# Altium schematic symbol library con-sullinselectronics.SCHLIB: 22 symbols
Pins are listed as number, name and electrical type; pins without a type are passive.

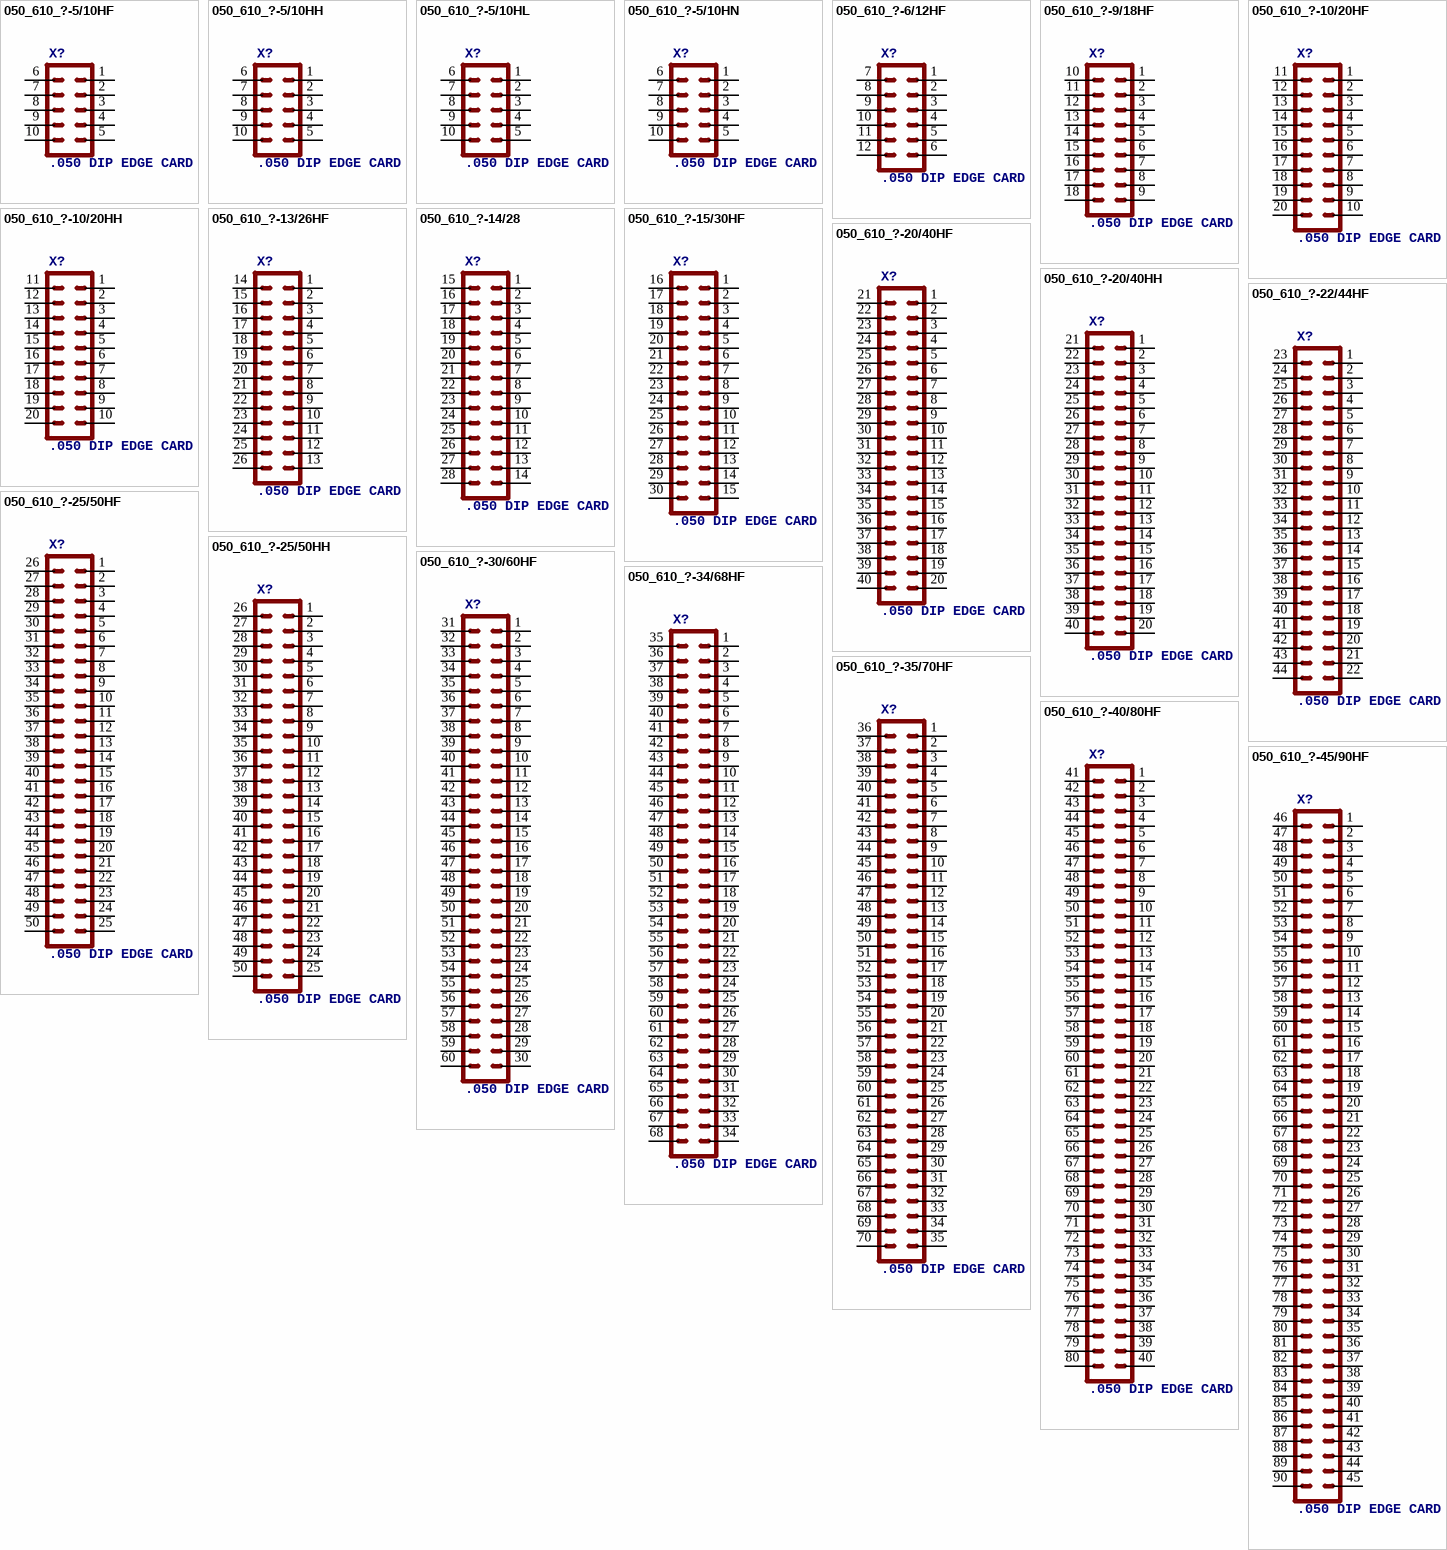
[diagram p0: symbols 050_610_?-5/10HF to 050_610_?-45/90HF]

## 050_610_?-5/10HF
designator X?, comment .050 DIP EDGE CARD CONNECTOR   .050 [1.27mm] CONTACT CENTERS .610" INSULATEOR HEIGHT Source: .050 DIP EDGE CARD.pdf
OC_FARNELL: unknown; OC_NEWARK: unknown
footprint 050_610_HF-5/10
pins: 1, 2, 3, 4, 5, 6, 7, 8, 9, 10

## 050_610_?-5/10HH
designator X?, comment .050 DIP EDGE CARD CONNECTOR   .050 [1.27mm] CONTACT CENTERS .610" INSULATEOR HEIGHT Source: .050 DIP EDGE CARD.pdf
OC_FARNELL: unknown; OC_NEWARK: unknown
footprint 050_610_HH-5/10
pins: 1, 2, 3, 4, 5, 6, 7, 8, 9, 10

## 050_610_?-5/10HL
designator X?, comment .050 DIP EDGE CARD CONNECTOR   .050 [1.27mm] CONTACT CENTERS .610" INSULATEOR HEIGHT Source: .050 DIP EDGE CARD.pdf
OC_FARNELL: unknown; OC_NEWARK: unknown
footprint 050_610_HL-5/10
pins: 1, 2, 3, 4, 5, 6, 7, 8, 9, 10

## 050_610_?-5/10HN
designator X?, comment .050 DIP EDGE CARD CONNECTOR   .050 [1.27mm] CONTACT CENTERS .610" INSULATEOR HEIGHT Source: .050 DIP EDGE CARD.pdf
OC_FARNELL: unknown; OC_NEWARK: unknown
footprint 050_610_HN-5/10
pins: 1, 2, 3, 4, 5, 6, 7, 8, 9, 10

## 050_610_?-6/12HF
designator X?, comment .050 DIP EDGE CARD CONNECTOR   .050 [1.27mm] CONTACT CENTERS .610" INSULATEOR HEIGHT Source: .050 DIP EDGE CARD.pdf
OC_FARNELL: unknown; OC_NEWARK: unknown
footprint 050_610_HF-6/12
pins: 1, 2, 3, 4, 5, 6, 7, 8, 9, 10, 11, 12

## 050_610_?-9/18HF
designator X?, comment .050 DIP EDGE CARD CONNECTOR   .050 [1.27mm] CONTACT CENTERS .610" INSULATEOR HEIGHT Source: .050 DIP EDGE CARD.pdf
OC_FARNELL: unknown; OC_NEWARK: unknown
footprint 050_610_HF-9/18
pins: 1, 2, 3, 4, 5, 6, 7, 8, 9, 10, 11, 12, 13, 14, 15, 16, 17, 18

## 050_610_?-10/20HF
designator X?, comment .050 DIP EDGE CARD CONNECTOR   .050 [1.27mm] CONTACT CENTERS .610" INSULATEOR HEIGHT Source: .050 DIP EDGE CARD.pdf
OC_FARNELL: unknown; OC_NEWARK: unknown
footprint 050_610_HF-10/20
pins: 1, 2, 3, 4, 5, 6, 7, 8, 9, 10, 11, 12, 13, 14, 15, 16, 17, 18, 19, 20

## 050_610_?-10/20HH
designator X?, comment .050 DIP EDGE CARD CONNECTOR   .050 [1.27mm] CONTACT CENTERS .610" INSULATEOR HEIGHT Source: .050 DIP EDGE CARD.pdf
OC_FARNELL: unknown; OC_NEWARK: unknown
footprint 050_610_HH-10/20
pins: 1, 2, 3, 4, 5, 6, 7, 8, 9, 10, 11, 12, 13, 14, 15, 16, 17, 18, 19, 20

## 050_610_?-13/26HF
designator X?, comment .050 DIP EDGE CARD CONNECTOR   .050 [1.27mm] CONTACT CENTERS .610" INSULATEOR HEIGHT Source: .050 DIP EDGE CARD.pdf
OC_FARNELL: unknown; OC_NEWARK: unknown
footprint 050_610_HF-13/26
pins: 1, 2, 3, 4, 5, 6, 7, 8, 9, 10, 11, 12, 13, 14, 15, 16, 17, 18, 19, 20, 21, 22, 23, 24, 25, 26

## 050_610_?-14/28
designator X?, comment .050 DIP EDGE CARD CONNECTOR   .050 [1.27mm] CONTACT CENTERS .610" INSULATEOR HEIGHT Source: .050 DIP EDGE CARD.pdf
OC_FARNELL: unknown; OC_NEWARK: unknown
footprint 050_610_HF-14/28
pins: 1, 2, 3, 4, 5, 6, 7, 8, 9, 10, 11, 12, 13, 14, 15, 16, 17, 18, 19, 20, 21, 22, 23, 24, 25, 26, 27, 28

## 050_610_?-15/30HF
designator X?, comment .050 DIP EDGE CARD CONNECTOR   .050 [1.27mm] CONTACT CENTERS .610" INSULATEOR HEIGHT Source: .050 DIP EDGE CARD.pdf
OC_FARNELL: unknown; OC_NEWARK: unknown
footprint 050_610_HF-15/30
pins: 1, 2, 3, 4, 5, 6, 7, 8, 9, 10, 11, 12, 13, 14, 15, 16, 17, 18, 19, 20, 21, 22, 23, 24, 25, 26, 27, 28, 29, 30

## 050_610_?-20/40HF
designator X?, comment .050 DIP EDGE CARD CONNECTOR   .050 [1.27mm] CONTACT CENTERS .610" INSULATEOR HEIGHT Source: .050 DIP EDGE CARD.pdf
OC_FARNELL: unknown; OC_NEWARK: unknown
footprint 050_610_HF-20/40
pins: 1, 2, 3, 4, 5, 6, 7, 8, 9, 10, 11, 12, 13, 14, 15, 16, 17, 18, 19, 20, 21, 22, 23, 24, 25, 26, 27, 28, 29, 30, 31, 32, 33, 34, 35, 36, 37, 38, 39, 40

## 050_610_?-20/40HH
designator X?, comment .050 DIP EDGE CARD CONNECTOR   .050 [1.27mm] CONTACT CENTERS .610" INSULATEOR HEIGHT Source: .050 DIP EDGE CARD.pdf
OC_FARNELL: unknown; OC_NEWARK: unknown
footprint 050_610_HH-20/40
pins: 1, 2, 3, 4, 5, 6, 7, 8, 9, 10, 11, 12, 13, 14, 15, 16, 17, 18, 19, 20, 21, 22, 23, 24, 25, 26, 27, 28, 29, 30, 31, 32, 33, 34, 35, 36, 37, 38, 39, 40

## 050_610_?-22/44HF
designator X?, comment .050 DIP EDGE CARD CONNECTOR   .050 [1.27mm] CONTACT CENTERS .610" INSULATEOR HEIGHT Source: .050 DIP EDGE CARD.pdf
OC_FARNELL: unknown; OC_NEWARK: unknown
footprint 050_610_HF-22/44
pins: 1, 2, 3, 4, 5, 6, 7, 8, 9, 10, 11, 12, 13, 14, 15, 16, 17, 18, 19, 20, 21, 22, 23, 24, 25, 26, 27, 28, 29, 30, 31, 32, 33, 34, 35, 36, 37, 38, 39, 40, 41, 42, 43, 44

## 050_610_?-25/50HF
designator X?, comment .050 DIP EDGE CARD CONNECTOR   .050 [1.27mm] CONTACT CENTERS .610" INSULATEOR HEIGHT Source: .050 DIP EDGE CARD.pdf
OC_FARNELL: unknown; OC_NEWARK: unknown
footprint 050_610_HF-25/50
pins: 1, 2, 3, 4, 5, 6, 7, 8, 9, 10, 11, 12, 13, 14, 15, 16, 17, 18, 19, 20, 21, 22, 23, 24, 25, 26, 27, 28, 29, 30, 31, 32, 33, 34, 35, 36, 37, 38, 39, 40, 41, 42, 43, 44, 45, 46, 47, 48, 49, 50

## 050_610_?-25/50HH
designator X?, comment .050 DIP EDGE CARD CONNECTOR   .050 [1.27mm] CONTACT CENTERS .610" INSULATEOR HEIGHT Source: .050 DIP EDGE CARD.pdf
OC_FARNELL: unknown; OC_NEWARK: unknown
footprint 050_610_HH-25/50
pins: 1, 2, 3, 4, 5, 6, 7, 8, 9, 10, 11, 12, 13, 14, 15, 16, 17, 18, 19, 20, 21, 22, 23, 24, 25, 26, 27, 28, 29, 30, 31, 32, 33, 34, 35, 36, 37, 38, 39, 40, 41, 42, 43, 44, 45, 46, 47, 48, 49, 50

## 050_610_?-30/60HF
designator X?, comment .050 DIP EDGE CARD CONNECTOR   .050 [1.27mm] CONTACT CENTERS .610" INSULATEOR HEIGHT Source: .050 DIP EDGE CARD.pdf
OC_FARNELL: unknown; OC_NEWARK: unknown
footprint 050_610_HF-30/60
pins: 1, 2, 3, 4, 5, 6, 7, 8, 9, 10, 11, 12, 13, 14, 15, 16, 17, 18, 19, 20, 21, 22, 23, 24, 25, 26, 27, 28, 29, 30, 31, 32, 33, 34, 35, 36, 37, 38, 39, 40, 41, 42, 43, 44, 45, 46, 47, 48, 49, 50, 51, 52, 53, 54, 55, 56, 57, 58, 59, 60

## 050_610_?-34/68HF
designator X?, comment .050 DIP EDGE CARD CONNECTOR   .050 [1.27mm] CONTACT CENTERS .610" INSULATEOR HEIGHT Source: .050 DIP EDGE CARD.pdf
OC_FARNELL: unknown; OC_NEWARK: unknown
footprint 050_610_HF-34/68
pins: 1, 2, 3, 4, 5, 6, 7, 8, 9, 10, 11, 12, 13, 14, 15, 16, 17, 18, 19, 20, 21, 22, 23, 24, 25, 26, 27, 28, 29, 30, 31, 32, 33, 34, 35, 36, 37, 38, 39, 40, 41, 42, 43, 44, 45, 46, 47, 48, 49, 50, 51, 52, 53, 54, 55, 56, 57, 58, 59, 60, 61, 62, 63, 64, 65, 66, 67, 68

## 050_610_?-35/70HF
designator X?, comment .050 DIP EDGE CARD CONNECTOR   .050 [1.27mm] CONTACT CENTERS .610" INSULATEOR HEIGHT Source: .050 DIP EDGE CARD.pdf
OC_FARNELL: unknown; OC_NEWARK: unknown
footprint 050_610_HF-35/70
pins: 1, 2, 3, 4, 5, 6, 7, 8, 9, 10, 11, 12, 13, 14, 15, 16, 17, 18, 19, 20, 21, 22, 23, 24, 25, 26, 27, 28, 29, 30, 31, 32, 33, 34, 35, 36, 37, 38, 39, 40, 41, 42, 43, 44, 45, 46, 47, 48, 49, 50, 51, 52, 53, 54, 55, 56, 57, 58, 59, 60, 61, 62, 63, 64, 65, 66, 67, 68, 69, 70

## 050_610_?-40/80HF
designator X?, comment .050 DIP EDGE CARD CONNECTOR   .050 [1.27mm] CONTACT CENTERS .610" INSULATEOR HEIGHT Source: .050 DIP EDGE CARD.pdf
OC_FARNELL: unknown; OC_NEWARK: unknown
footprint 050_610_HF-40/80
pins: 1, 2, 3, 4, 5, 6, 7, 8, 9, 10, 11, 12, 13, 14, 15, 16, 17, 18, 19, 20, 21, 22, 23, 24, 25, 26, 27, 28, 29, 30, 31, 32, 33, 34, 35, 36, 37, 38, 39, 40, 41, 42, 43, 44, 45, 46, 47, 48, 49, 50, 51, 52, 53, 54, 55, 56, 57, 58, 59, 60, 61, 62, 63, 64, 65, 66, 67, 68, 69, 70, 71, 72, 73, 74, 75, 76, 77, 78, 79, 80

## 050_610_?-45/90HF
designator X?, comment .050 DIP EDGE CARD CONNECTOR   .050 [1.27mm] CONTACT CENTERS .610" INSULATEOR HEIGHT Source: .050 DIP EDGE CARD.pdf
OC_FARNELL: unknown; OC_NEWARK: unknown
footprint 050_610_HF-45/90
pins: 1, 2, 3, 4, 5, 6, 7, 8, 9, 10, 11, 12, 13, 14, 15, 16, 17, 18, 19, 20, 21, 22, 23, 24, 25, 26, 27, 28, 29, 30, 31, 32, 33, 34, 35, 36, 37, 38, 39, 40, 41, 42, 43, 44, 45, 46, 47, 48, 49, 50, 51, 52, 53, 54, 55, 56, 57, 58, 59, 60, 61, 62, 63, 64, 65, 66, 67, 68, 69, 70, 71, 72, 73, 74, 75, 76, 77, 78, 79, 80, 81, 82, 83, 84, 85, 86, 87, 88, 89, 90

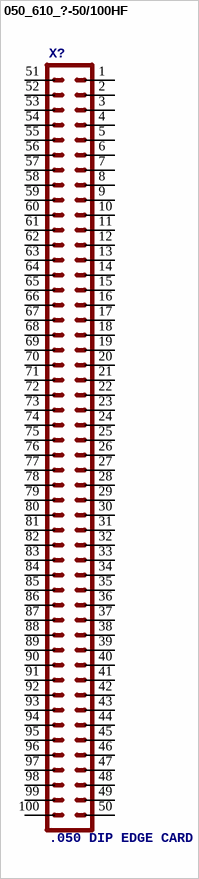
[diagram p1: symbol 050_610_?-50/100HF]

## 050_610_?-50/100HF
designator X?, comment .050 DIP EDGE CARD CONNECTOR   .050 [1.27mm] CONTACT CENTERS .610" INSULATEOR HEIGHT Source: .050 DIP EDGE CARD.pdf
OC_FARNELL: unknown; OC_NEWARK: unknown
footprint 050_610_HF-50/100
pins: 1, 2, 3, 4, 5, 6, 7, 8, 9, 10, 11, 12, 13, 14, 15, 16, 17, 18, 19, 20, 21, 22, 23, 24, 25, 26, 27, 28, 29, 30, 31, 32, 33, 34, 35, 36, 37, 38, 39, 40, 41, 42, 43, 44, 45, 46, 47, 48, 49, 50, 51, 52, 53, 54, 55, 56, 57, 58, 59, 60, 61, 62, 63, 64, 65, 66, 67, 68, 69, 70, 71, 72, 73, 74, 75, 76, 77, 78, 79, 80, 81, 82, 83, 84, 85, 86, 87, 88, 89, 90, 91, 92, 93, 94, 95, 96, 97, 98, 99, 100